# EAGLE library part TMP36GSZ (library TMP36GSZ)
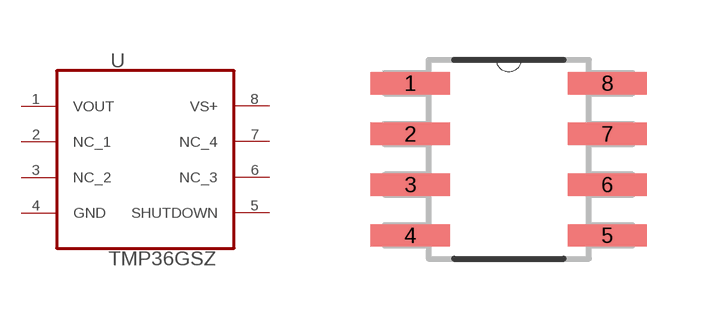
[diagram p0: symbol with the pads of SOIC127P600X175-8N; footprint SOIC127P600X175-8N]

Designator prefix -

## TMP36GSZ  [SOIC127P600X175-8N]
1  VOUT  pas
2  NC_1  pas
3  NC_2  pas
4  GND  pas
5  SHUTDOWN  pas
6  NC_3  pas
7  NC_4  pas
8  VS+  pwr

## Footprint SOIC127P600X175-8N (pad centres in mm)
smd 1.981 x 0.559: 1 -2.464,1.905; 2 -2.464,0.635; 3 -2.464,-0.635; 4 -2.464,-1.905; 5 2.464,-1.905; 6 2.464,-0.635; 7 2.464,0.635; 8 2.464,1.905